# Altium schematic symbol library RSX_Modules.SchLib: 6 symbols
Pins are listed as number, name and electrical type; pins without a type are passive.

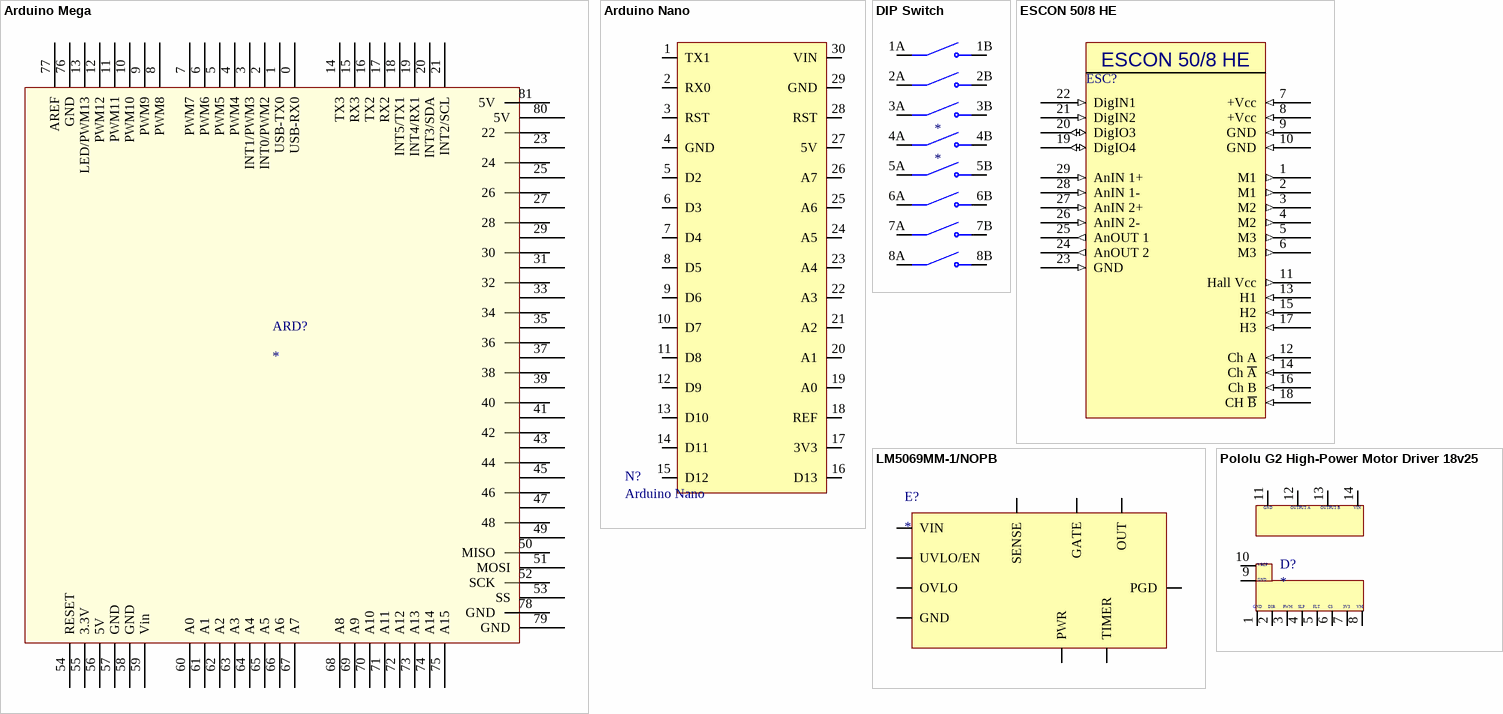
[diagram p0: symbols Arduino Mega to Pololu G2 High-Power Motor Driver 18v25]

## Arduino Mega
designator ARD?
footprint Arduino Mega (Arduino Mega 2560)
pins: 0 USB-RX0, 1 USB-TX0, 2 INT0/PWM2, 3 INT1/PWM3, 4 PWM4, 5 PWM5, 6 PWM6, 7 PWM7, 8 PWM8, 9 PWM9, 10 PWM10, 11 PWM11, 12 PWM12, 13 LED/PWM13, 14 TX3, 15 RX3, 16 TX2, 17 RX2, 18 INT5/TX1, 19 INT4/RX1, 20 INT3/SDA, 21 INT2/SCL, 22, 23, 24, 25, 26, 27, 28, 29, 30, 31, 32, 33, 34, 35, 36, 37, 38, 39, 40, 41, 42, 43, 44, 45, 46, 47, 48, 49, 50 MISO, 51 MOSI, 52 SCK, 53 SS, 54 RESET, 55 3.3V, 56 5V, 57 GND, 58 GND, 59 Vin, 60 A0, 61 A1, 62 A2, 63 A3, 64 A4, 65 A5, 66 A6, 67 A7, 68 A8, 69 A9, 70 A10, 71 A11, 72 A12, 73 A13, 74 A14, 75 A15, 76 GND, 77 AREF, 78 GND, 79 GND, 80 5V, 81 5V

## Arduino Nano
designator N?
footprint ARDUINO NANO
pins: 1 TX1, 2 RX0, 3 RST, 4 GND, 5 D2, 6 D3, 7 D4, 8 D5, 9 D6, 10 D7, 11 D8, 12 D9, 13 D10, 14 D11, 15 D12, 16 D13, 17 3V3, 18 REF, 19 A0, 20 A1, 21 A2, 22 A3, 23 A4, 24 A5, 25 A6, 26 A7, 27 5V, 28 RST, 29 GND, 30 VIN

## DIP Switch
designator *
footprint DIP Switch (8 position SPST DIP Switch)
pins: 1A COM1, 1B NO1, 2A COM2, 2B NO2, 3A COM3, 3B NO3, 4A COM4, 4B NO4, 5A COM5, 5B NO5, 6A COM6, 6B NO6, 7A COM7, 7B NO7, 8A COM8, 8B NO8

## ESCON 50/8 HE
designator ESC?
ESCON Module 50/8 HE Servocontroller
footprint ESCON 50/8 HE
pins: 1 M1 (out), 2 M1 (out), 3 M2 (out), 4 M2 (out), 5 M3 (out), 6 M3 (out), 7 +Vcc (in), 8 +Vcc (in), 9 GND (in), 10 GND (in), 11 Hall Vcc (out), 12 Ch A (in), 13 H1 (in), 14 Ch ~{A} (in), 15 H2 (in), 16 Ch B (in), 17 H3 (in), 18 CH ~{B} (in), 19 DigIO4 (io), 20 DigIO3 (io), 21 DigIN2 (in), 22 DigIN1 (in), 23 GND (in), 24 AnOUT 2 (out), 25 AnOUT 1 (out), 26 AnIN 2- (in), 27 AnIN 2+ (in), 28 AnIN 1- (in), 29 AnIN 1+ (in)

## LM5069MM-1/NOPB
designator E?
pins: 1 SENSE, 2 VIN, 3 UVLO/EN, 4 OVLO, 5 GND, 6 TIMER, 7 PWR, 8 PGD, 9 OUT, 10 GATE

## Pololu G2 High-Power Motor Driver 18v25
designator D?
Category: Brushed DC motor
footprint POLOLU 18V25
pins: 1, 2, 3, 4, 5, 6, 7, 8, 9, 10, 11, 12, 13, 14
text: GND; OUTPUT A; OUTPUT B; VIN; VREF; DIR; PWM; SLP; FLT; CS; 3V3; VM